# EAGLE library part 6N137-MOD (library Nextion handheld controller)
MOTOROLA OPTO COUPLER
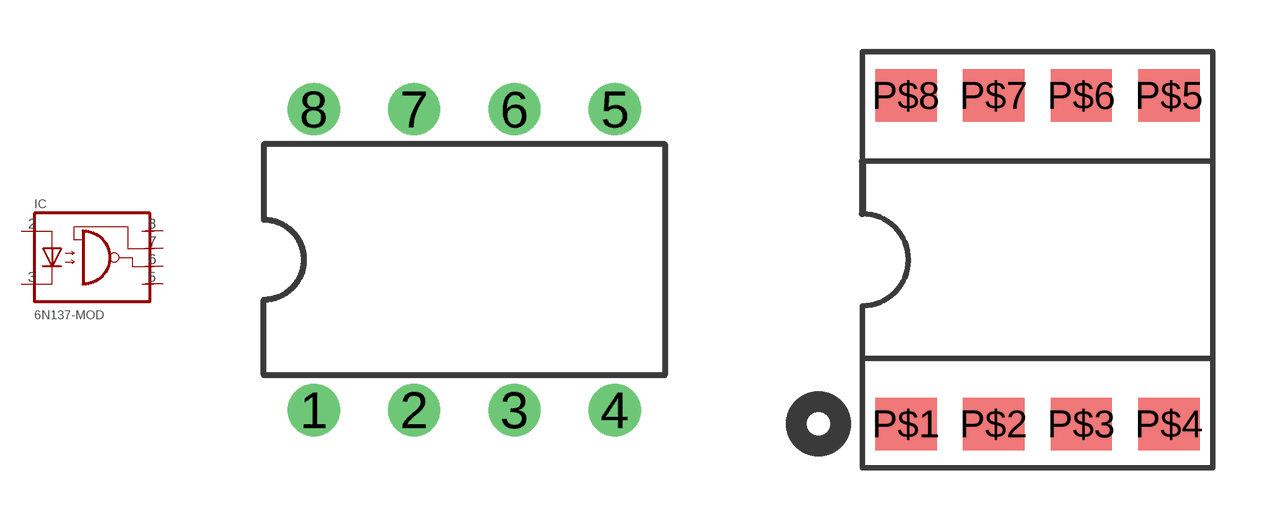
[diagram p9: symbol with the pads of DIL08; footprints DIL08, DIP08_SMD]

Designator prefix IC

## 6N137-MOD (MPN: 6N137; OC_FARNELL: 1328376; OC_NEWARK: 52M1895)  [DIL08]
2  A  pas
3  C  pas
5  GND  pas
6  OUT  pas
7  EN  pas
8  VCC  pas

## 6N137-MODDIP08_SMD  [DIP08_SMD]
P$2  A  pas
P$3  C  pas
P$5  GND  pas
P$6  OUT  pas
P$7  EN  pas
P$8  VCC  pas

## Footprint DIL08 (pad centres in mm)
Dual In Line Package
drill 0.813: 1 -3.81,-3.81; 2 -1.27,-3.81; 3 1.27,-3.81; 4 3.81,-3.81; 5 3.81,3.81; 6 1.27,3.81; 7 -1.27,3.81; 8 -3.81,3.81

## Footprint DIP08_SMD (pad centres in mm)
Dual In Line
smd 1.778 x 1.524: P$1 -3.81,-5.08; P$2 -1.27,-5.08; P$3 1.27,-5.08; P$4 3.81,-5.08; P$5 3.81,4.445; P$6 1.27,4.445; P$7 -1.27,4.445; P$8 -3.81,4.445